# EAGLE library part ULN2003LVDR (library JMT)
7-Ch Relay, Inductive Sink Driver SOIC16 Texas Instruments ULN2003LVDR, 7-element NPN Darlington Transistor Array, 140 mA 8 V, 16-Pin SOIC Source: Datasheet <http://www.ti.com/lit/ds/symlink/uln2003lv.pdf>
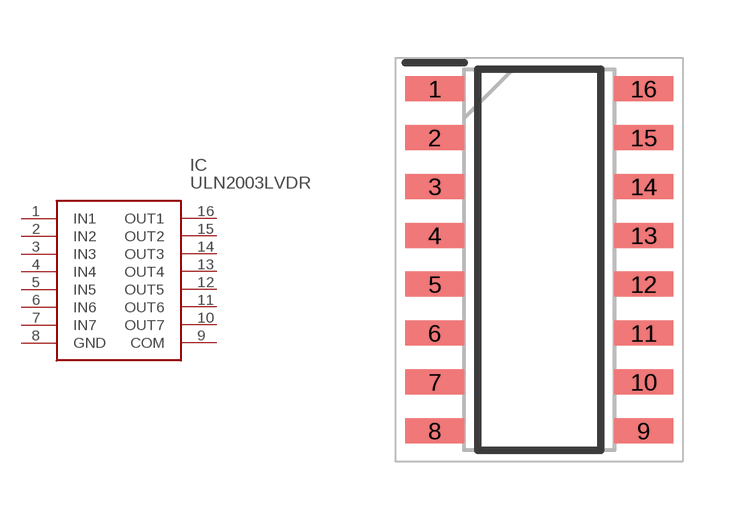
[diagram p1: symbol with the pads of SOIC127P600X175-16N; footprint SOIC127P600X175-16N]

Designator prefix IC

## ULN2003LVDR (ARROW_PART_NUMBER: ULN2003LVDR; ARROW_PRICE-STOCK: https://www.arrow.com/en/products/uln2003lvdr/texas-instruments; DESCRIPTION: 7-Ch Relay, Inductive Sink Driver SOIC16 Texas Instruments ULN2003LVDR, 7-element NPN Darlington Transistor Array, 140 mA 8 V, 16-Pin SOIC; HEIGHT: 1.75mm; MANUFACTURER_NAME: Texas Instruments; MANUFACTURER_PART_NUMBER: ULN2003LVDR; RS_PART_NUMBER: 1626795; RS_PRICE-STOCK: http://uk.rs-online.com/web/p/products/1626795)  [SOIC127P600X175-16N]
1  IN1  in
2  IN2  in
3  IN3  in
4  IN4  in
5  IN5  in
6  IN6  in
7  IN7  in
8  GND  pwr
9  COM
10  OUT7  out
11  OUT6  out
12  OUT5  out
13  OUT4  out
14  OUT3  out
15  OUT2  out
16  OUT1  out

## Footprint SOIC127P600X175-16N (pad centres in mm)
D(R-PDSO-G16)
smd 1.525 x 0.65: 1 -2.712,4.445; 2 -2.712,3.175; 3 -2.712,1.905; 4 -2.712,0.635; 5 -2.712,-0.635; 6 -2.712,-1.905; 7 -2.712,-3.175; 8 -2.712,-4.445; 9 2.712,-4.445; 10 2.712,-3.175; 11 2.712,-1.905; 12 2.712,-0.635; 13 2.712,0.635; 14 2.712,1.905; 15 2.712,3.175; 16 2.712,4.445